# Altium integrated library 691216510003S.IntLib: 1 symbol
Pins are listed as number, name and electrical type; pins without a type are passive.

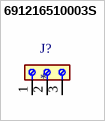
[diagram p0: symbol 691216510003S]

## 691216510003S
designator J?
5.08 MM TERMINAL BLOCK;; MF: WÃ¼rth Elektronik; MP: 691216510003S; SnapEDA_Link: https://www.snapeda.com/parts/691216510003S/W%25C3%25BCrth+Elektronik+Midcom/view-part/?ref=snap; Package: None; Value: *; Check_prices: https://www.snapeda.com/parts/691216510003S/W%25C3%25BCrth+Elektronik+Midcom/view-part/?ref=eda
footprint 691216510003S
pins: 1, 2, 3